# EAGLE library part MCP42100! (library elements_cs2016)
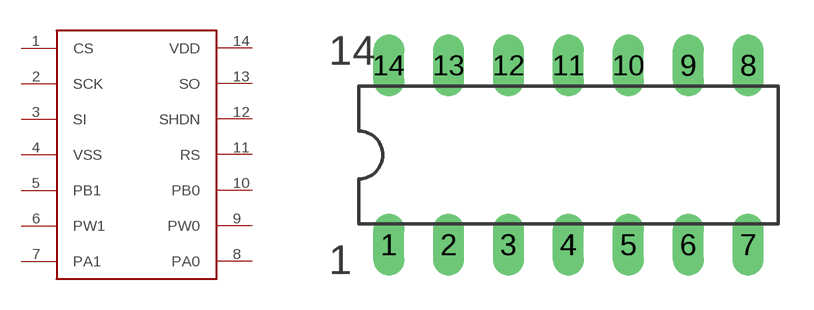
[diagram p7: symbol with the pads of DIL14; footprint DIL14]

Designator prefix -

## MCP42100!  [DIL14]
1  CS
2  SCK
3  SI
4  VSS
5  PB1
6  PW1
7  PA1
8  PA0
9  PW0
10  PB0
11  RS
12  SHDN
13  SO
14  VDD

## Footprint DIL14 (pad centres in mm)
Dual In Line Package
drill 0.813 long: 1 -7.62,-3.81; 2 -5.08,-3.81; 3 -2.54,-3.81; 4 0,-3.81; 5 2.54,-3.81; 6 5.08,-3.81; 7 7.62,-3.81; 8 7.62,3.81; 9 5.08,3.81; 10 2.54,3.81; 11 0,3.81; 12 -2.54,3.81; 13 -5.08,3.81; 14 -7.62,3.81